# Altium footprint library BelFuse.PcbLib: 1 footprints
Each footprint in its own frame and in the unit in brackets; x right, y up, seen from the top. Pads: shape width x height; smd on the part's side, far side on the other; paste and mask are expansions set on the pad; w line width, h text height; cw(c..) or ccw(c..) is an arc to the next point about the centre after c.
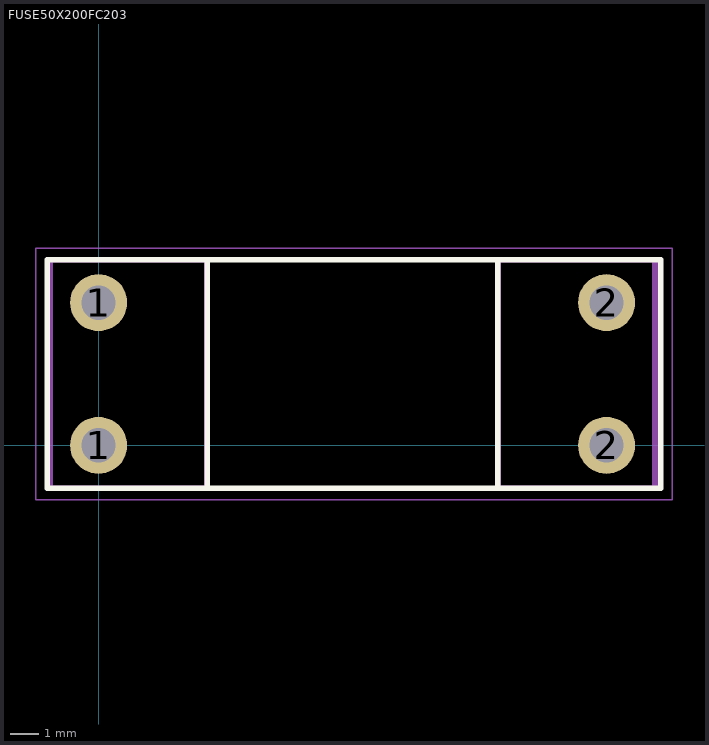
[diagram p0: the footprint, top view; thin cyan lines are the x and y axes]

## FUSE50X200FC203 [mm] "Fuse holder, 5x20mm"
pads (4):
  round 2 hole 1.2: 1(0,0) 1(0,5) 2(17.8,0) 2(17.8,5)
Top Overlay:
  lines w0.2: 3.81,-1.5 3.81,6.5 ; 13.99,-1.5 13.99,6.5 ; -1.8,-1.5 -1.8,6.5 19.7,6.5 19.7,-1.5 -1.8,-1.5
Assembly:
  lines w0.2: -1.7,-1.5 3.8,-1.5 3.8,6.5 -1.7,6.5 -1.7,-1.5 ; 14,-1.5 14,6.5 19.5,6.5 19.5,-1.5 14,-1.5
Courtyard:
  lines w0.05: -2.2,-1.9 -2.2,6.9 20.1,6.9 20.1,-1.9 -2.2,-1.9
3D body: height 6.8, standoff 1.82, extent -1.2,0.005 18.8,4.995